# EAGLE library part DF3-14S (library con-hirose)
Single row female connector 2mm 14 way
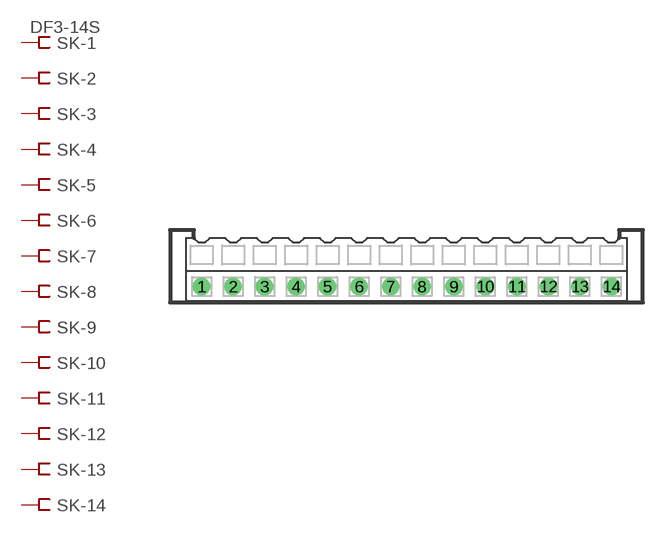
[diagram p16: symbol with the pads of DF3S-14; footprint DF3S-14]

Designator prefix SK; gates -1=FV -2=F -3=F -4=F -5=F -6=F -7=F -8=F -9=F -10=F -11=F -12=F -13=F -14=F

## DF3-14S  [DF3S-14]
1  -1:S  pas
2  -2:S  pas
3  -3:S  pas
4  -4:S  pas
5  -5:S  pas
6  -6:S  pas
7  -7:S  pas
8  -8:S  pas
9  -9:S  pas
10  -10:S  pas
11  -11:S  pas
12  -12:S  pas
13  -13:S  pas
14  -14:S  pas

## Footprint DF3S-14 (pad centres in mm)
Single row connector 2mm 14 way
drill 0.6 round: 1 -13,-1; 2 -11,-1; 3 -9,-1; 4 -7,-1; 5 -5,-1; 6 -3,-1; 7 -1,-1; 8 1,-1; 9 3,-1; 10 5,-1; 11 7,-1; 12 9,-1; 13 11,-1; 14 13,-1